# EAGLE library part TFT-DISPLAY-2.6-50P-TOUGH (library 32teeth - 2.6" TFT 51P)
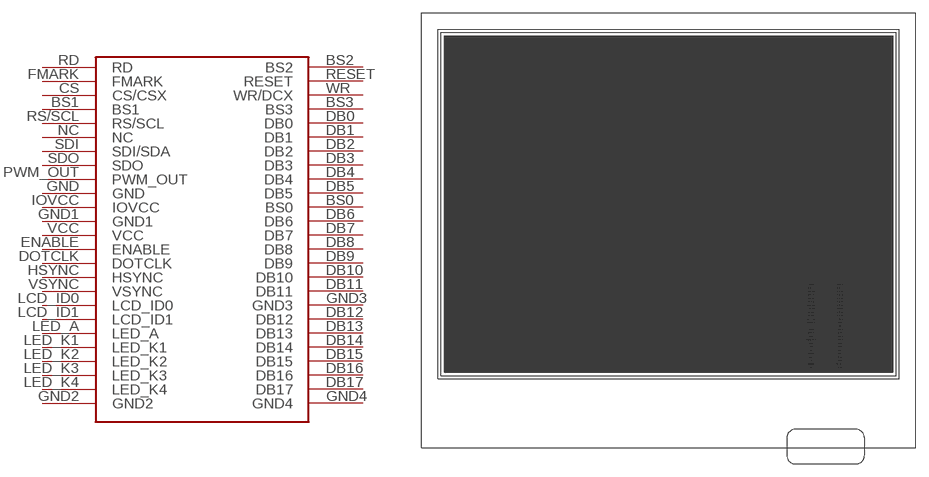
[diagram p1: symbol with the pads of TFT-DISPLAY-2.6-50P-TOUGH; footprint TFT-DISPLAY-2.6-50P-TOUGH]

Designator prefix -

## TFT-DISPLAY-2.6-50P-TOUGH  [TFT-DISPLAY-2.6-50P-TOUGH]
BS0  BS0
BS1  BS1
BS2  BS2
BS3  BS3
CS  CS/CSX
DB0  DB0
DB1  DB1
DB2  DB2
DB3  DB3
DB4  DB4
DB5  DB5
DB6  DB6
DB7  DB7
DB8  DB8
DB9  DB9
DB10  DB10
DB11  DB11
DB12  DB12
DB13  DB13
DB14  DB14
DB15  DB15
DB16  DB16
DB17  DB17
DOTCLK  DOTCLK
ENABLE  ENABLE
FMARK  FMARK
GND  GND
GND1  GND1
GND2  GND2
GND3  GND3
GND4  GND4
HSYNC  HSYNC
IOVCC  IOVCC
LCD_ID0  LCD_ID0
LCD_ID1  LCD_ID1
LED_A  LED_A
LED_K1  LED_K1
LED_K2  LED_K2
LED_K3  LED_K3
LED_K4  LED_K4
NC  NC
PWM_OUT  PWM_OUT
RD  RD
RESET  RESET
RS/SCL  RS/SCL
SDI  SDI/SDA
SDO  SDO
VCC  VCC
VSYNC  VSYNC
WR  WR/DCX

## Footprint TFT-DISPLAY-2.6-50P-TOUGH (pad centres in mm)
smd 0.65 x 0.15 bottom: BS0 19.81,-11.9; BS1 16.5,-14.7; BS2 19.81,-15.9; BS3 19.81,-14.7; CS 16.5,-15.1; DB0 19.81,-14.3; DB1 19.81,-13.9; DB2 19.81,-13.5; DB3 19.81,-13.1; DB4 19.81,-12.7; DB5 19.81,-12.3; DB6 19.81,-11.5; DB7 19.81,-11.1; DB8 19.81,-10.7; DB9 19.81,-10.3; DB10 19.81,-9.9; DB11 19.81,-9.5; DB12 19.81,-8.7; DB13 19.81,-8.3; DB14 19.81,-7.9; DB15 19.81,-7.5; DB16 19.81,-7.1; DB17 19.81,-6.7; DOTCLK 16.5,-10.3; ENABLE 16.5,-10.7; FMARK 16.5,-15.5; GND 16.5,-12.3; GND1 16.5,-11.5; GND2 16.5,-6.3; GND3 19.81,-9.1; GND4 19.81,-6.3; HSYNC 16.5,-9.9; IOVCC 16.5,-11.9; LCD_ID0 16.5,-9.1; LCD_ID1 16.5,-8.7; LED_A 16.5,-8.3; LED_K1 16.5,-7.9; LED_K2 16.5,-7.5; LED_K3 16.5,-7.1; LED_K4 16.5,-6.7; NC 16.5,-13.9; PWM_OUT 16.5,-12.7; RD 16.5,-15.9; RESET 19.81,-15.5; RS/SCL 16.5,-14.3; SDI 16.5,-13.5; SDO 16.5,-13.1; VCC 16.5,-11.1; VSYNC 16.5,-9.5; WR 19.81,-15.1